# Altium footprint library amd.PCBLIB: 2 footprints
Each footprint in its own frame and in the unit in brackets; x right, y up, seen from the top. Pads: shape width x height; smd on the part's side, far side on the other; paste and mask are expansions set on the pad; w line width, h text height; cw(c..) or ccw(c..) is an arc to the next point about the centre after c.
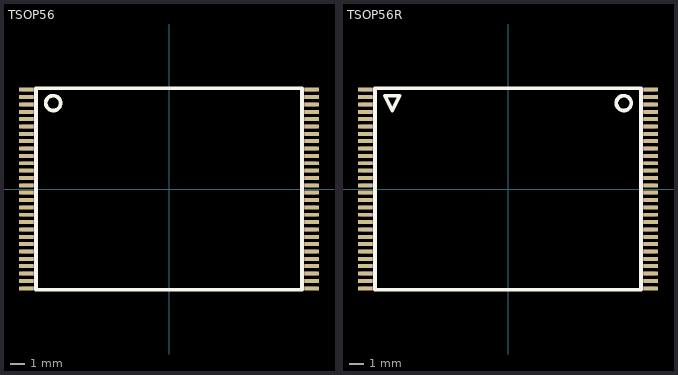
[diagram p0: the footprints below, top view; thin cyan lines are the x and y axes]

## TSOP56 [mm]
pads (56):
  rect 1x0.27 smd: 1(-9.7,6.75) 2(-9.7,6.25) 3(-9.7,5.75) 4(-9.7,5.25) 5(-9.7,4.75) 6(-9.7,4.25) 7(-9.7,3.75) 8(-9.7,3.25) 9(-9.7,2.75) 10(-9.7,2.25) 11(-9.7,1.75) 12(-9.7,1.25) 13(-9.7,0.75) 14(-9.7,0.25) 15(-9.7,-0.25) 16(-9.7,-0.75) 17(-9.7,-1.25) 18(-9.7,-1.75) 19(-9.7,-2.25) 20(-9.7,-2.75) 21(-9.7,-3.25) 22(-9.7,-3.75) 23(-9.7,-4.25) 24(-9.7,-4.75) 25(-9.7,-5.25) 26(-9.7,-5.75) 27(-9.7,-6.25) 28(-9.7,-6.75) 29(9.7,-6.75) 30(9.7,-6.25) 31(9.7,-5.75) 32(9.7,-5.25) 33(9.7,-4.75) 34(9.7,-4.25) 35(9.7,-3.75) 36(9.7,-3.25) 37(9.7,-2.75) 38(9.7,-2.25) 39(9.7,-1.75) 40(9.7,-1.25) 41(9.7,-0.75) 42(9.7,-0.25) 43(9.7,0.25) 44(9.7,0.75) 45(9.7,1.25) 46(9.7,1.75) 47(9.7,2.25) 48(9.7,2.75) 49(9.7,3.25) 50(9.7,3.75) 51(9.7,4.25) 52(9.7,4.75) 53(9.7,5.25) 54(9.7,5.75) 55(9.7,6.25) 56(9.7,6.75)
Top Overlay:
  circle w0.254: c-7.874,5.842 r0.508
  lines w0.254: -9.05,-6.85 9.05,-6.85 9.05,6.85 -9.05,6.85 -9.05,-6.85
Mechanical 16:
  rectangle: -10,6.625 -9.15,6.875
  rectangle: -10,6.125 -9.15,6.375
  rectangle: -10,5.625 -9.15,5.875
  rectangle: -10,5.125 -9.15,5.375
  rectangle: -10,4.625 -9.15,4.875
  rectangle: -10,4.125 -9.15,4.375
  rectangle: -10,3.625 -9.15,3.875
  rectangle: -10,3.125 -9.15,3.375
  rectangle: -10,2.625 -9.15,2.875
  rectangle: -10,2.125 -9.15,2.375
  rectangle: -10,1.625 -9.15,1.875
  rectangle: -10,1.125 -9.15,1.375
  rectangle: -10,0.625 -9.15,0.875
  rectangle: -10,0.125 -9.15,0.375
  rectangle: -10,-0.375 -9.15,-0.125
  rectangle: -10,-0.875 -9.15,-0.625
  rectangle: -10,-1.375 -9.15,-1.125
  rectangle: -10,-1.875 -9.15,-1.625
  rectangle: -10,-2.375 -9.15,-2.125
  rectangle: -10,-2.875 -9.15,-2.625
  rectangle: -10,-3.375 -9.15,-3.125
  rectangle: -10,-3.875 -9.15,-3.625
  rectangle: -10,-4.375 -9.15,-4.125
  rectangle: -10,-4.875 -9.15,-4.625
  rectangle: -10,-5.375 -9.15,-5.125
  rectangle: -10,-5.875 -9.15,-5.625
  rectangle: -10,-6.375 -9.15,-6.125
  rectangle: -10,-6.875 -9.15,-6.625
  region: 10,-6.625 9.15,-6.625 9.15,-6.875 10,-6.875
  region: 10,-6.125 9.15,-6.125 9.15,-6.375 10,-6.375
  region: 10,-5.625 9.15,-5.625 9.15,-5.875 10,-5.875
  region: 10,-5.125 9.15,-5.125 9.15,-5.375 10,-5.375
  region: 10,-4.625 9.15,-4.625 9.15,-4.875 10,-4.875
  region: 10,-4.125 9.15,-4.125 9.15,-4.375 10,-4.375
  region: 10,-3.625 9.15,-3.625 9.15,-3.875 10,-3.875
  region: 10,-3.125 9.15,-3.125 9.15,-3.375 10,-3.375
  region: 10,-2.625 9.15,-2.625 9.15,-2.875 10,-2.875
  region: 10,-2.125 9.15,-2.125 9.15,-2.375 10,-2.375
  region: 10,-1.625 9.15,-1.625 9.15,-1.875 10,-1.875
  region: 10,-1.125 9.15,-1.125 9.15,-1.375 10,-1.375
  region: 10,-0.625 9.15,-0.625 9.15,-0.875 10,-0.875
  region: 10,-0.125 9.15,-0.125 9.15,-0.375 10,-0.375
  region: 10,0.375 9.15,0.375 9.15,0.125 10,0.125
  region: 10,0.875 9.15,0.875 9.15,0.625 10,0.625
  region: 10,1.375 9.15,1.375 9.15,1.125 10,1.125
  region: 10,1.875 9.15,1.875 9.15,1.625 10,1.625
  region: 10,2.375 9.15,2.375 9.15,2.125 10,2.125
  region: 10,2.875 9.15,2.875 9.15,2.625 10,2.625
  region: 10,3.375 9.15,3.375 9.15,3.125 10,3.125
  region: 10,3.875 9.15,3.875 9.15,3.625 10,3.625
  region: 10,4.375 9.15,4.375 9.15,4.125 10,4.125
  region: 10,4.875 9.15,4.875 9.15,4.625 10,4.625
  region: 10,5.375 9.15,5.375 9.15,5.125 10,5.125
  region: 10,5.875 9.15,5.875 9.15,5.625 10,5.625
  region: 10,6.375 9.15,6.375 9.15,6.125 10,6.125
  region: 10,6.875 9.15,6.875 9.15,6.625 10,6.625

## TSOP56R [mm]
pads (56):
  rect 1x0.27 smd: 1(-9.7,6.75) 2(-9.7,6.25) 3(-9.7,5.75) 4(-9.7,5.25) 5(-9.7,4.75) 6(-9.7,4.25) 7(-9.7,3.75) 8(-9.7,3.25) 9(-9.7,2.75) 10(-9.7,2.25) 11(-9.7,1.75) 12(-9.7,1.25) 13(-9.7,0.75) 14(-9.7,0.25) 15(-9.7,-0.25) 16(-9.7,-0.75) 17(-9.7,-1.25) 18(-9.7,-1.75) 19(-9.7,-2.25) 20(-9.7,-2.75) 21(-9.7,-3.25) 22(-9.7,-3.75) 23(-9.7,-4.25) 24(-9.7,-4.75) 25(-9.7,-5.25) 26(-9.7,-5.75) 27(-9.7,-6.25) 28(-9.7,-6.75) 29(9.7,-6.75) 30(9.7,-6.25) 31(9.7,-5.75) 32(9.7,-5.25) 33(9.7,-4.75) 34(9.7,-4.25) 35(9.7,-3.75) 36(9.7,-3.25) 37(9.7,-2.75) 38(9.7,-2.25) 39(9.7,-1.75) 40(9.7,-1.25) 41(9.7,-0.75) 42(9.7,-0.25) 43(9.7,0.25) 44(9.7,0.75) 45(9.7,1.25) 46(9.7,1.75) 47(9.7,2.25) 48(9.7,2.75) 49(9.7,3.25) 50(9.7,3.75) 51(9.7,4.25) 52(9.7,4.75) 53(9.7,5.25) 54(9.7,5.75) 55(9.7,6.25) 56(9.7,6.75)
Top Overlay:
  circle w0.254: c7.874,5.842 r0.508
  lines w0.254: -9.05,-6.85 9.05,-6.85 9.05,6.85 -9.05,6.85 -9.05,-6.85 ; -8.382,6.35 -7.366,6.35 -7.874,5.334 -8.382,6.35
Mechanical 16:
  rectangle: -10,6.625 -9.15,6.875
  rectangle: -10,6.125 -9.15,6.375
  rectangle: -10,5.625 -9.15,5.875
  rectangle: -10,5.125 -9.15,5.375
  rectangle: -10,4.625 -9.15,4.875
  rectangle: -10,4.125 -9.15,4.375
  rectangle: -10,3.625 -9.15,3.875
  rectangle: -10,3.125 -9.15,3.375
  rectangle: -10,2.625 -9.15,2.875
  rectangle: -10,2.125 -9.15,2.375
  rectangle: -10,1.625 -9.15,1.875
  rectangle: -10,1.125 -9.15,1.375
  rectangle: -10,0.625 -9.15,0.875
  rectangle: -10,0.125 -9.15,0.375
  rectangle: -10,-0.375 -9.15,-0.125
  rectangle: -10,-0.875 -9.15,-0.625
  rectangle: -10,-1.375 -9.15,-1.125
  rectangle: -10,-1.875 -9.15,-1.625
  rectangle: -10,-2.375 -9.15,-2.125
  rectangle: -10,-2.875 -9.15,-2.625
  rectangle: -10,-3.375 -9.15,-3.125
  rectangle: -10,-3.875 -9.15,-3.625
  rectangle: -10,-4.375 -9.15,-4.125
  rectangle: -10,-4.875 -9.15,-4.625
  rectangle: -10,-5.375 -9.15,-5.125
  rectangle: -10,-5.875 -9.15,-5.625
  rectangle: -10,-6.375 -9.15,-6.125
  rectangle: -10,-6.875 -9.15,-6.625
  region: 10,-6.625 9.15,-6.625 9.15,-6.875 10,-6.875
  region: 10,-6.125 9.15,-6.125 9.15,-6.375 10,-6.375
  region: 10,-5.625 9.15,-5.625 9.15,-5.875 10,-5.875
  region: 10,-5.125 9.15,-5.125 9.15,-5.375 10,-5.375
  region: 10,-4.625 9.15,-4.625 9.15,-4.875 10,-4.875
  region: 10,-4.125 9.15,-4.125 9.15,-4.375 10,-4.375
  region: 10,-3.625 9.15,-3.625 9.15,-3.875 10,-3.875
  region: 10,-3.125 9.15,-3.125 9.15,-3.375 10,-3.375
  region: 10,-2.625 9.15,-2.625 9.15,-2.875 10,-2.875
  region: 10,-2.125 9.15,-2.125 9.15,-2.375 10,-2.375
  region: 10,-1.625 9.15,-1.625 9.15,-1.875 10,-1.875
  region: 10,-1.125 9.15,-1.125 9.15,-1.375 10,-1.375
  region: 10,-0.625 9.15,-0.625 9.15,-0.875 10,-0.875
  region: 10,-0.125 9.15,-0.125 9.15,-0.375 10,-0.375
  region: 10,0.375 9.15,0.375 9.15,0.125 10,0.125
  region: 10,0.875 9.15,0.875 9.15,0.625 10,0.625
  region: 10,1.375 9.15,1.375 9.15,1.125 10,1.125
  region: 10,1.875 9.15,1.875 9.15,1.625 10,1.625
  region: 10,2.375 9.15,2.375 9.15,2.125 10,2.125
  region: 10,2.875 9.15,2.875 9.15,2.625 10,2.625
  region: 10,3.375 9.15,3.375 9.15,3.125 10,3.125
  region: 10,3.875 9.15,3.875 9.15,3.625 10,3.625
  region: 10,4.375 9.15,4.375 9.15,4.125 10,4.125
  region: 10,4.875 9.15,4.875 9.15,4.625 10,4.625
  region: 10,5.375 9.15,5.375 9.15,5.125 10,5.125
  region: 10,5.875 9.15,5.875 9.15,5.625 10,5.625
  region: 10,6.375 9.15,6.375 9.15,6.125 10,6.125
  region: 10,6.875 9.15,6.875 9.15,6.625 10,6.625